# Altium schematic symbol library TLV1117LV.SchLib: 1 symbol
Pins are listed as number, name and electrical type; pins without a type are passive.

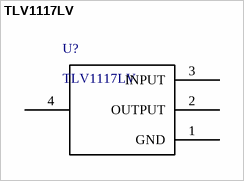
[diagram p0: symbol TLV1117LV]

## TLV1117LV
designator U?
pins: 1 GND, 2 OUTPUT, 3 INPUT, 4